# Altium footprint library DFE2HCAH1R0MJ0L.PcbLib: 1 footprints
Each footprint in its own frame and in the unit in brackets; x right, y up, seen from the top. Pads: shape width x height; smd on the part's side, far side on the other; paste and mask are expansions set on the pad; w line width, h text height; cw(c..) or ccw(c..) is an arc to the next point about the centre after c.
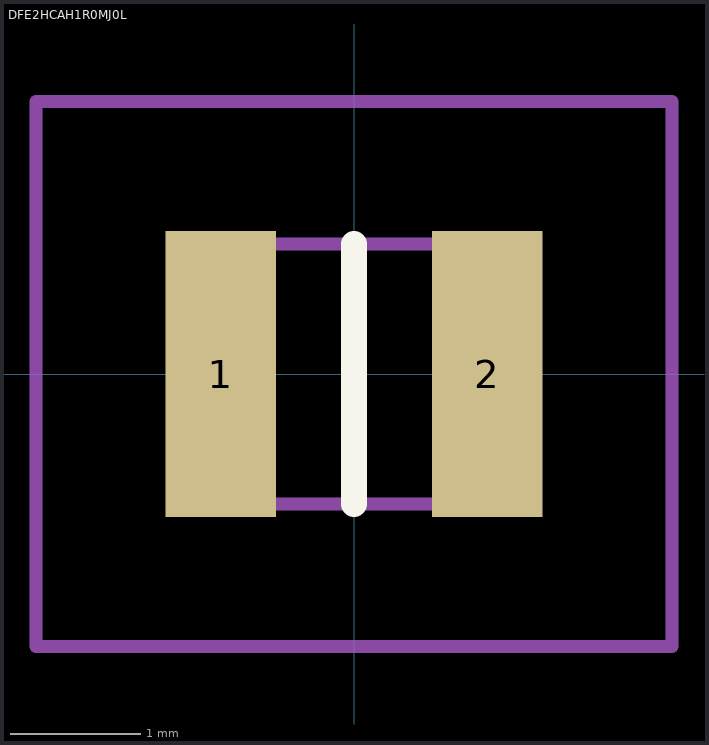
[diagram p0: the footprint, top view; thin cyan lines are the x and y axes]

## DFE2HCAH1R0MJ0L [mm]
pads (2):
  rect 0.85x2.2 smd: 1(-1.025,0) 2(1.025,0)
Top Overlay:
  lines w0.2: 0,-1 0,1
Mechanical 15:
  lines w0.1: -1.25,-1 1.25,-1 1.25,1 -1.25,1 -1.25,-1
Mechanical 20:
  lines w0.1: -2.45,-2.1 2.45,-2.1 2.45,2.1 -2.45,2.1 -2.45,-2.1